# EAGLE library part MOD_ES920LR (library akita)
Easel ES920LR, LoRa
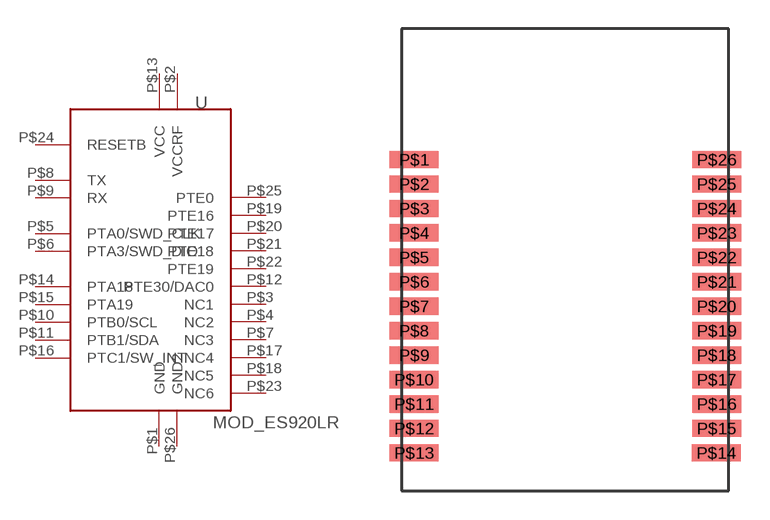
[diagram p159: symbol with the pads of MOD_ES920LR; footprint MOD_ES920LR]

Designator prefix U

## MOD_ES920LR  [MOD_ES920LR]
P$1  GND
P$2  VCCRF
P$3  NC1
P$4  NC2
P$5  PTA0/SWD_CLK
P$6  PTA3/SWD_DIO
P$7  NC3
P$8  TX
P$9  RX
P$10  PTB0/SCL
P$11  PTB1/SDA
P$12  PTE30/DAC0
P$13  VCC
P$14  PTA18
P$15  PTA19
P$16  PTC1/SW_INT
P$17  NC4
P$18  NC5
P$19  PTE16
P$20  PTE17
P$21  PTE18
P$22  PTE19
P$23  NC6
P$24  RESETB
P$25  PTE0
P$26  GND2

## Footprint MOD_ES920LR (pad centres in mm)
Easel ES920LR, LoRa
smd 2.54 x 0.9: P$1 -7.85,5.205; P$2 -7.85,3.935; P$3 -7.85,2.665; P$4 -7.85,1.395; P$5 -7.85,0.125; P$6 -7.85,-1.145; P$7 -7.85,-2.415; P$8 -7.85,-3.685; P$9 -7.85,-4.955; P$10 -7.85,-6.225; P$11 -7.85,-7.495; P$12 -7.85,-8.765; P$13 -7.85,-10.035; P$14 7.85,-10.035; P$15 7.87,-8.765; P$16 7.87,-7.495; P$17 7.87,-6.225; P$18 7.87,-4.955; P$19 7.87,-3.685; P$20 7.87,-2.415; P$21 7.87,-1.145; P$22 7.87,0.125; P$23 7.87,1.395; P$24 7.87,2.665; P$25 7.87,3.935; P$26 7.87,5.205